# EAGLE library part ADS7817E (library burr-brown)
12-Bit 200 kSPS ADC
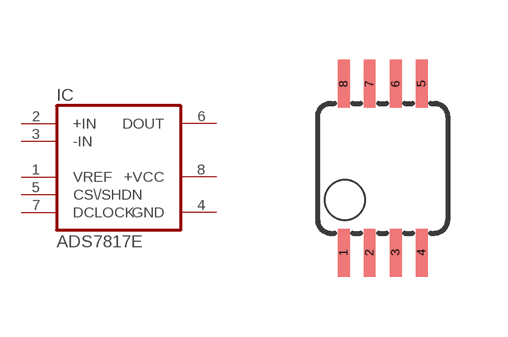
[diagram p41: symbol with the pads of MSOP-08; footprint MSOP-08]

Designator prefix IC

## ADS7817E  [MSOP-08]
1  VREF  in
2  +IN  in
3  -IN  in
4  GND  pwr
5  CS\/SHDN  in
6  DOUT  out
7  DCLOCK  in
8  +VCC  pwr

## Footprint MSOP-08 (pad centres in mm)
smd 0.3 x 1.2: 1 -0.976,-2.113; 2 -0.326,-2.113; 3 0.324,-2.113; 4 0.974,-2.113; 5 0.974,2.112; 6 0.324,2.112; 7 -0.326,2.112; 8 -0.976,2.112